# Altium footprint library SODFL3616X98N.PcbLib: 1 footprints
Each footprint in its own frame and in the unit in brackets; x right, y up, seen from the top. Pads: shape width x height; smd on the part's side, far side on the other; paste and mask are expansions set on the pad; w line width, h text height; cw(c..) or ccw(c..) is an arc to the next point about the centre after c.
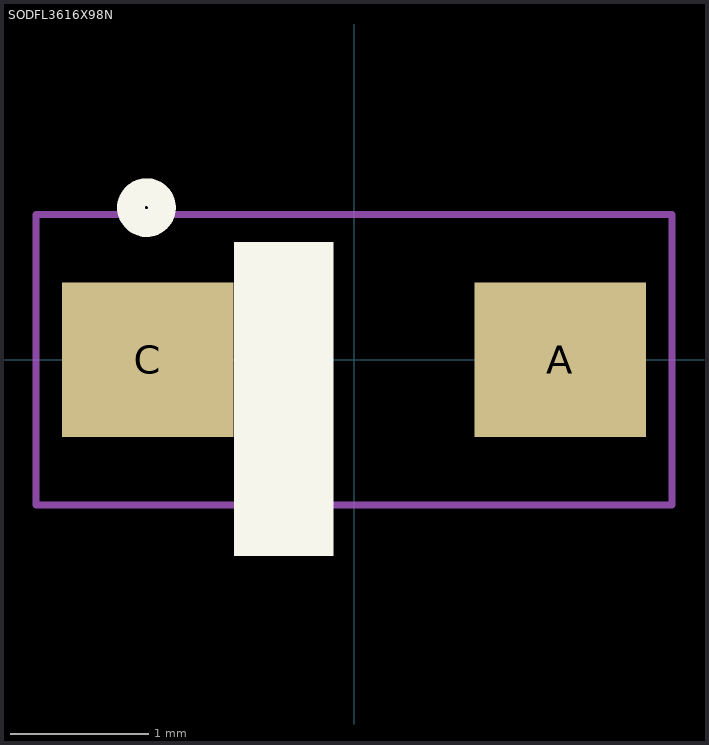
[diagram p0: the footprint, top view; thin cyan lines are the x and y axes]

## SODFL3616X98N [mm]
pads (2):
  rect 1.24x1.12 smd: A(1.49,0) C(-1.49,0)
Top Overlay:
  circle w0.2: c-1.5,1.1 r0.112
  region: -0.866,0.85 -0.15,0.85 -0.15,-1.418 -0.866,-1.418
Mechanical 16:
  lines w0.05: -2.3,-1.05 2.3,-1.05 2.3,1.05 -2.3,1.05 -2.3,-1.05